# EAGLE library part M50-3901242 (library SHC)
24 pin header. through hole 2 rows 1.27mm pitch
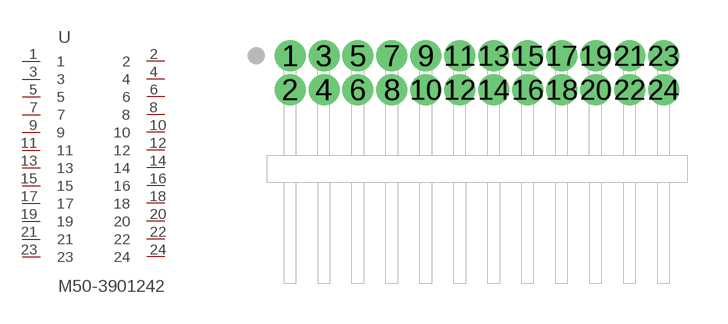
[diagram p37: symbol with the pads of 952-1706-ND; footprint 952-1706-ND]

Designator prefix -

## M50-3901242  [952-1706-ND]
1  1
2  2
3  3
4  4
5  5
6  6
7  7
8  8
9  9
10  10
11  11
12  12
13  13
14  14
15  15
16  16
17  17
18  18
19  19
20  20
21  21
22  22
23  23
24  24

## Footprint 952-1706-ND (pad centres in mm)
drill 0.65 pad 0.813: 1 -6.35,1.27; 2 -6.35,0; 3 -5.08,1.27; 4 -5.08,0; 5 -3.81,1.27; 6 -3.81,0; 7 -2.54,1.27; 8 -2.54,0; 9 -1.27,1.27; 10 -1.27,0; 11 0,1.27; 12 0,0; 13 1.27,1.27; 14 1.27,0; 15 2.54,1.27; 16 2.54,0; 17 3.81,1.27; 18 3.81,0; 19 5.08,1.27; 20 5.08,0; 21 6.35,1.27; 22 6.35,0; 23 7.62,1.27; 24 7.62,0